# Altium schematic symbol library WE-PoE+.SchLib: 22 symbols
Pins are listed as number, name and electrical type; pins without a type are passive.

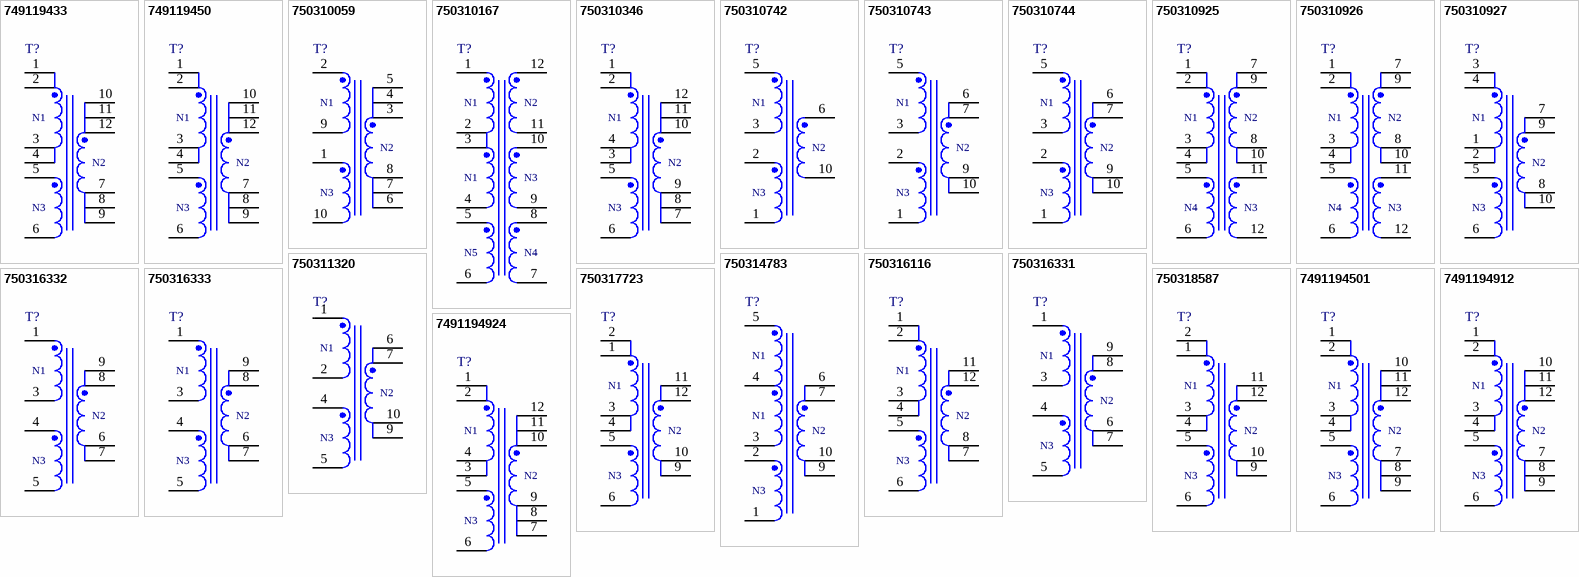
[diagram p0: symbols 749119433 to 7491194924]

## 749119433
designator T?  (value not drawn)
WE-PoE+ Power over Ethernet Plus Transformer, SMT, EFD20, Ui = 36-72V, Po = 3.3V/9A; Manufacturer: Wurth Elektronik; Auxiliary Voltage: 11V; DC Resistance 1: 99mΩ; DC Resistance 2: 3.2mΩ; DC Resistance 3: 220mΩ; Inductance: 42μH; Input Voltage: 36-72V (DC); Insulation Test Voltage: 1500V (AC); Output Current: 9A; Output Voltage: 3.3V; Turns Ratio: 11:1:3.3; Type: CCM Flyback; Manufacturer Part Number: 749119433; Category: Transformers For DC-DC Converter; Match Code: WE-PoE+; ComponentLink1Description: Website Link; ComponentLink1URL: https://www.we-online.com/redexpert/article/749119433?ad; ComponentLink2Description: Datasheet Link; ComponentLink2URL: https://www.we-online.com/redexpert/spec/749119433?ad; Mount: Surface Mount; Min Operating Temperature: -40°C; Max Operating Temperature: 125°C; Packaging: Tape and Reel; Case/Size Code: EFD20; Length: 23.11mm; Width: 22mm; Height: 11.43mm
footprint EFD20_749119433
simulation model 749119433
pins: 1, 2, 3, 4, 5, 6, 7, 8, 9, 10, 11, 12
text: N1; N2; N3

## 749119450
designator T?  (value not drawn)
WE-PoE+ Power over Ethernet Plus Transformer, SMT, EFD20, Ui = 36-72V, Po = 5V/6A; Manufacturer: Wurth Elektronik; Auxiliary Voltage: 15V; DC Resistance 1: 116mΩ; DC Resistance 2: 4mΩ; DC Resistance 3: 230mΩ; Inductance: 65μH; Input Voltage: 36-72V (DC); Insulation Test Voltage: 1500V (AC); Output Current: 6A; Output Voltage: 5V; Turns Ratio: 7:1:3; Type: CCM Flyback; Manufacturer Part Number: 749119450; Category: Transformers For DC-DC Converter; Match Code: WE-PoE+; ComponentLink1Description: Website Link; ComponentLink1URL: https://www.we-online.com/redexpert/article/749119450?ad; ComponentLink2Description: Datasheet Link; ComponentLink2URL: https://www.we-online.com/redexpert/spec/749119450?ad; Mount: Surface Mount; Min Operating Temperature: -40°C; Max Operating Temperature: 125°C; Packaging: Tape and Reel; Case/Size Code: EFD20; Length: 23.11mm; Width: 22mm; Height: 11.43mm
footprint EFD20_749119450
simulation model 749119450
pins: 1, 2, 3, 4, 5, 6, 7, 8, 9, 10, 11, 12
text: N1; N2; N3

## 750310059
designator T?  (value not drawn)
WE-PoE+ Power over Ethernet Plus Transformer, SMT, EFD20, Ui = 36-72V, Po = 5V/6A; Manufacturer: Wurth Elektronik; Auxiliary Voltage: 17V; DC Resistance 1: 750mΩ; DC Resistance 2: 4.5mΩ; Inductance: 29.2μH; Input Voltage: 36-72V (DC); Insulation Test Voltage: 1500V (AC); Output Current: 6A; Output Voltage: 5V; Turns Ratio: 8:1:3.5; Type: Active Clamp Forward; Manufacturer Part Number: 750310059; Category: Transformers For DC-DC Converter; Match Code: WE-PoE+; ComponentLink1Description: Website Link; ComponentLink1URL: https://www.we-online.com/redexpert/article/750310059?ad; ComponentLink2Description: Datasheet Link; ComponentLink2URL: https://www.we-online.com/redexpert/spec/750310059?ad; Mount: Surface Mount; Min Operating Temperature: -40°C; Max Operating Temperature: 125°C; Packaging: Tape and Reel; Case/Size Code: EFD20; Length: 25.91mm; Width: 23.11mm; Height: 10.92mm; DC Resistance 3: 750mΩ
footprint EFD20_750310059
pins: 1, 2, 3, 4, 5, 6, 7, 8, 9, 10
text: N1; N2; N3

## 750310167
designator T?  (value not drawn)
WE-PoE+ Power over Ethernet Plus Transformer, SMT, EFD20, Ui = 36-72V, Po1 = 3.3V/3A, Po2 = 12V/1.6A, Po3 = 5V/0.4A; Manufacturer: Wurth Elektronik; Auxiliary Voltage: 12V; DC Resistance 1: 70mΩ; DC Resistance 2: 9mΩ; DC Resistance 3: 23mΩ; Inductance: 25μH; Input Voltage: 36-72V (DC); Insulation Test Voltage: 1500V (AC); Output Current: 3A; Output Current 2: 1.6A; Output Current 3: 0.4A; Output Voltage: 3.3V; Output Voltage 3: 5V; Turns Ratio: 6.67:1:2.67:1.33:2.67; Type: Flyback; Manufacturer Part Number: 750310167; Category: Transformers For DC-DC Converter; Match Code: WE-PoE+; ComponentLink1Description: Website Link; ComponentLink1URL: https://www.we-online.com/redexpert/article/750310167?ad; ComponentLink2Description: Datasheet Link; ComponentLink2URL: https://www.we-online.com/redexpert/spec/750310167?ad; Mount: Surface Mount; Min Operating Temperature: -40°C; Max Operating Temperature: 125°C; Packaging: Tape and Reel; Case/Size Code: EFD20; Length: 29.65mm; Width: 21.8mm; Height: 11.43mm; Output Voltage 2: 12V
footprint EFD20_750310167
pins: 1, 2, 3, 4, 5, 6, 7, 8, 9, 10, 11, 12
text: N1; N2; N3; N5; N4

## 750310346
designator T?  (value not drawn)
WE-PoE+ Power over Ethernet Plus Transformer, SMT, EFD20, Ui = 36-72V, Po = 12V/2.5A; Manufacturer: Wurth Elektronik; Auxiliary Voltage: 12V; DC Resistance 1: 85mΩ; DC Resistance 2: 25mΩ; DC Resistance 3: 245mΩ; Inductance: 100μH; Input Voltage: 36-72V (DC); Insulation Test Voltage: 1500V (AC); Output Current: 2.5A; Turns Ratio: 3:1:1; Type: Flyback; Manufacturer Part Number: 750310346; Category: Transformers For DC-DC Converter; Match Code: WE-PoE+; ComponentLink1Description: Website Link; ComponentLink1URL: https://www.we-online.com/redexpert/article/750310346?ad; ComponentLink2Description: Datasheet Link; ComponentLink2URL: https://www.we-online.com/redexpert/spec/750310346?ad; Mount: Surface Mount; Min Operating Temperature: -40°C; Max Operating Temperature: 125°C; Packaging: Tape and Reel; Case/Size Code: EFD20; Length: 29.65mm; Width: 21.8mm; Height: 11.43mm; Output Voltage: 12V
footprint EFD20_750310346
pins: 1, 2, 3, 4, 5, 6, 7, 8, 9, 10, 11, 12
text: N1; N2; N3

## 750310742
designator T?  (value not drawn)
WE-PoE+ Power over Ethernet Plus Transformer, SMT, EP13, Ui = 37-57V, Po = 12V/2.1A; Manufacturer: Wurth Elektronik; Auxiliary Voltage: 12.5V; DC Resistance 1: 85mΩ; DC Resistance 2: 25mΩ; DC Resistance 3: 155mΩ; Inductance: 38μH; Input Voltage: 37-57V (DC); Insulation Test Voltage: 1500V (AC); Output Current: 2.1A; Output Voltage: 12V; Turns Ratio: 2:1:1.1; Type: CCM Flyback; Manufacturer Part Number: 750310742; Category: Transformers For DC-DC Converter; Match Code: WE-PoE+; ComponentLink1Description: Website Link; ComponentLink1URL: https://www.we-online.com/redexpert/article/750310742?ad; ComponentLink2Description: Datasheet Link; ComponentLink2URL: https://www.we-online.com/redexpert/spec/750310742?ad; Mount: Surface Mount; Min Operating Temperature: -40°C; Max Operating Temperature: 125°C; Packaging: Tape and Reel; Case/Size Code: EP13; Length: 13.46mm; Width: 13mm; Height: 12.7mm
footprint EP13_750310742
simulation model 750310742
pins: 1, 2, 3, 5, 6, 10
text: N1; N2; N3

## 750310743
designator T?  (value not drawn)
WE-PoE+ Power over Ethernet Plus Transformer, SMT, EP13, Ui = 37-57V, Po = 3.3V/7.5A; Manufacturer: Wurth Elektronik; Auxiliary Voltage: 12.7V; DC Resistance 1: 100mΩ; DC Resistance 2: 3mΩ; DC Resistance 3: 182mΩ; Inductance: 38μH; Input Voltage: 37-57V (DC); Insulation Test Voltage: 1500V (AC); Output Current: 7.5A; Output Voltage: 3.3V; Turns Ratio: 6.67:1:4; Type: CCM Flyback; Manufacturer Part Number: 750310743; Category: Transformers For DC-DC Converter; Match Code: WE-PoE+; ComponentLink1Description: Website Link; ComponentLink1URL: https://www.we-online.com/redexpert/article/750310743?ad; ComponentLink2Description: Datasheet Link; ComponentLink2URL: https://www.we-online.com/redexpert/spec/750310743?ad; Mount: Surface Mount; Min Operating Temperature: -40°C; Max Operating Temperature: 125°C; Packaging: Tape and Reel; Case/Size Code: EP13; Length: 13.46mm; Width: 13mm; Height: 12.7mm
footprint EP13_750310743
simulation model 750310743
pins: 1, 2, 3, 5, 6, 7, 9, 10
text: N1; N2; N3

## 750310744
designator T?  (value not drawn)
WE-PoE+ Power over Ethernet Plus Transformer, SMT, EP13, Ui = 37-57V, Po = 5V/5A; Manufacturer: Wurth Elektronik; Auxiliary Voltage: 12V; DC Resistance 1: 100mΩ; DC Resistance 2: 4.5mΩ; DC Resistance 3: 255mΩ; Inductance: 38μH; Input Voltage: 37-57V (DC); Insulation Test Voltage: 1500V (AC); Output Current: 5A; Output Voltage: 5V; Turns Ratio: 5:1:2.5; Type: CCM Flyback; Manufacturer Part Number: 750310744; Category: Transformers For DC-DC Converter; Match Code: WE-PoE+; ComponentLink1Description: Website Link; ComponentLink1URL: https://www.we-online.com/redexpert/article/750310744?ad; ComponentLink2Description: Datasheet Link; ComponentLink2URL: https://www.we-online.com/redexpert/spec/750310744?ad; Mount: Surface Mount; Min Operating Temperature: -40°C; Max Operating Temperature: 125°C; Packaging: Tape and Reel; Case/Size Code: EP13; Length: 13.46mm; Width: 13mm; Height: 12.7mm
footprint EP13_750310744
simulation model 750310744
pins: 1, 2, 3, 5, 6, 7, 9, 10
text: N1; N2; N3

## 750310925
designator T?  (value not drawn)
WE-PoE+ Power over Ethernet Plus Transformer, SMT, EFD20, Ui = 36-72V, Po1 = 3.3V/9A, Po2 = 6.5V/0.05A; Manufacturer: Wurth Elektronik; Auxiliary Voltage: 6.5V; DC Resistance 1: 60mΩ; DC Resistance 2: 8mΩ; DC Resistance 3: 350mΩ; Inductance: 57μH; Input Voltage: 36-72V (DC); Insulation Test Voltage: 1500V (AC); Output Current: 9A; Output Current 2: 0.05A; Output Voltage: 3.3V; Turns Ratio: 8:1:2:2; Type: CCM Flyback; Manufacturer Part Number: 750310925; Category: Transformers For DC-DC Converter; Match Code: WE-PoE+; ComponentLink1Description: Website Link; ComponentLink1URL: https://www.we-online.com/redexpert/article/750310925?ad; ComponentLink2Description: Datasheet Link; ComponentLink2URL: https://www.we-online.com/redexpert/spec/750310925?ad; Mount: Surface Mount; Min Operating Temperature: -40°C; Max Operating Temperature: 125°C; Packaging: Tape and Reel; Case/Size Code: EFD20; Length: 23.11mm; Width: 22mm; Height: 11.43mm; Output Voltage 2: 6.5V
footprint EFD20_750310925
simulation model 750310925
pins: 1, 2, 3, 4, 5, 6, 7, 8, 9, 10, 11, 12
text: N1; N2; N4; N3

## 750310926
designator T?  (value not drawn)
WE-PoE+ Power over Ethernet Plus Transformer, SMT, EFD20, Ui = 36-72V, Po1 = 5V/6A, Po2 = 6.5V/0.05A; Manufacturer: Wurth Elektronik; Auxiliary Voltage: 6.5V; DC Resistance 1: 50mΩ; DC Resistance 2: 10mΩ; DC Resistance 3: 300mΩ; Inductance: 40μH; Input Voltage: 36-72V (DC); Insulation Test Voltage: 1500V (AC); Output Current: 6A; Output Current 2: 0.05A; Output Voltage: 5V; Turns Ratio: 5:1:1.25:1.25; Type: CCM Flyback; Manufacturer Part Number: 750310926; Category: Transformers For DC-DC Converter; Match Code: WE-PoE+; ComponentLink1Description: Website Link; ComponentLink1URL: https://www.we-online.com/redexpert/article/750310926?ad; ComponentLink2Description: Datasheet Link; ComponentLink2URL: https://www.we-online.com/redexpert/spec/750310926?ad; Mount: Surface Mount; Min Operating Temperature: -40°C; Max Operating Temperature: 125°C; Packaging: Tape and Reel; Case/Size Code: EFD20; Length: 23.11mm; Width: 22mm; Height: 11.43mm; Output Voltage 2: 6.5V
footprint EFD20_750310926
simulation model 750310926
pins: 1, 2, 3, 4, 5, 6, 7, 8, 9, 10, 11, 12
text: N1; N2; N4; N3

## 750310927
designator T?  (value not drawn)
WE-PoE+ Power over Ethernet Plus Transformer, SMT, EFD20, Ui = 36-72V, Po = 12V/2.5A; Manufacturer: Wurth Elektronik; Auxiliary Voltage: 6V; DC Resistance 1: 150mΩ; DC Resistance 2: 50mΩ; DC Resistance 3: 70mΩ; Inductance: 112μH; Input Voltage: 36-72V (DC); Insulation Test Voltage: 1500V (AC); Output Current: 2.5A; Output Voltage: 12V; Turns Ratio: 3:1:0.5; Type: CCM Flyback; Manufacturer Part Number: 750310927; Category: Transformers For DC-DC Converter; Match Code: WE-PoE+; ComponentLink1Description: Website Link; ComponentLink1URL: https://www.we-online.com/redexpert/article/750310927?ad; ComponentLink2Description: Datasheet Link; ComponentLink2URL: https://www.we-online.com/redexpert/spec/750310927?ad; Mount: Surface Mount; Min Operating Temperature: -40°C; Max Operating Temperature: 125°C; Packaging: Tape and Reel; Case/Size Code: EFD20; Length: 23.11mm; Width: 22mm; Height: 11.43mm
footprint EFD20_750310927
simulation model 750310927
pins: 1, 2, 3, 4, 5, 6, 7, 8, 9, 10
text: N1; N2; N3

## 750311320
designator T?  (value not drawn)
WE-PoE+ Power over Ethernet Plus Transformer, SMT, EP13, Ui = 33-57V, Po = 12V/2.5A; Manufacturer: Wurth Elektronik; Auxiliary Voltage: 12V; DC Resistance 1: 210mΩ; DC Resistance 2: 35mΩ; DC Resistance 3: 580mΩ; Inductance: 100μH; Input Voltage: 33-57V (DC); Insulation Test Voltage: 1500V (AC); Output Current: 2.5A; Turns Ratio: 1.8:1:1; Type: Active Clamp Forward; Manufacturer Part Number: 750311320; Category: Transformers For DC-DC Converter; Match Code: WE-PoE+; ComponentLink1Description: Website Link; ComponentLink1URL: https://www.we-online.com/redexpert/article/750311320?ad; ComponentLink2Description: Datasheet Link; ComponentLink2URL: https://www.we-online.com/redexpert/spec/750311320?ad; Mount: Surface Mount; Min Operating Temperature: -40°C; Max Operating Temperature: 125°C; Packaging: Tape and Reel; Case/Size Code: EP13; Length: 17.75mm; Width: 13.46mm; Height: 12.7mm; Output Voltage: 12V
footprint EP13_750311320
pins: 1, 2, 4, 5, 6, 7, 9, 10
text: N1; N2; N3

## 750314783
designator T?  (value not drawn)
WE-PoE+ Power over Ethernet Plus Transformer, SMT, EP13, Ui = 48-57V, Po = 5V/7A; Manufacturer: Wurth Elektronik; Auxiliary Voltage: 12V; DC Resistance 1: 94mΩ; DC Resistance 2: 7mΩ; DC Resistance 3: 233mΩ; Inductance: 26μH; Input Voltage: 48-57V (DC); Insulation Test Voltage: 2400V (AC); Output Current: 7A; Output Voltage: 5V; Turns Ratio: 4.5:1:2.5; Type: Flyback; Manufacturer Part Number: 750314783; Category: Transformers For DC-DC Converter; Match Code: WE-PoE+; ComponentLink1Description: Website Link; ComponentLink1URL: https://www.we-online.com/redexpert/article/750314783?ad; ComponentLink2Description: Datasheet Link; ComponentLink2URL: https://www.we-online.com/redexpert/spec/750314783?ad; Mount: Surface Mount; Min Operating Temperature: -40°C; Max Operating Temperature: 125°C; Packaging: Tape and Reel; Case/Size Code: EP13; Length: 17.75mm; Width: 13.46mm; Height: 12.7mm
footprint EP13_750314783
pins: 1, 2, 3, 4, 5, 6, 7, 9, 10
text: N1; N2; N3

## 750316116
designator T?  (value not drawn)
WE-PoE+ Power over Ethernet Plus Transformer, SMT, EFD20, Ui = 41-57V, Po = 12V/4A; Manufacturer: Wurth Elektronik; Auxiliary Voltage: 12V; DC Resistance 1: 20mΩ; DC Resistance 2: 11mΩ; DC Resistance 3: 66mΩ; Inductance: 18μH; Input Voltage: 41-57V (DC); Insulation Test Voltage: 1500V (AC); Output Current: 4A; Turns Ratio: 2:1:1; Type: Flyback; Manufacturer Part Number: 750316116; Category: Transformers For DC-DC Converter; Match Code: WE-PoE+; ComponentLink1Description: Website Link; ComponentLink1URL: https://www.we-online.com/redexpert/article/750316116?ad; ComponentLink2Description: Datasheet Link; ComponentLink2URL: https://www.we-online.com/redexpert/spec/750316116?ad; Mount: Surface Mount; Min Operating Temperature: -40°C; Max Operating Temperature: 125°C; Packaging: Tape and Reel; Case/Size Code: EFD20; Length: 29.65mm; Width: 21.8mm; Height: 11.43mm; Output Voltage: 12V
footprint EFD20_750316116
pins: 1, 2, 3, 4, 5, 6, 7, 8, 11, 12
text: N1; N2; N3

## 750316331
designator T?  (value not drawn)
WE-PoE+ Power over Ethernet Plus Transformer, SMT, EPW15, Ui = 36-57V, Po = 3.3V/8A; Manufacturer: Wurth Elektronik; Auxiliary Voltage: 12V; DC Resistance 1: 120mΩ; DC Resistance 2: 10mΩ; DC Resistance 3: 125mΩ; Inductance: 54μH; Input Voltage: 36-57V (DC); Insulation Test Voltage: 1500V (AC); Output Current: 8A; Output Voltage: 3.3V; Turns Ratio: 8:1:3.67; Type: Flyback; Manufacturer Part Number: 750316331; Category: Transformers For DC-DC Converter; Match Code: WE-PoE+; ComponentLink1Description: Website Link; ComponentLink1URL: https://www.we-online.com/redexpert/article/750316331?ad; ComponentLink2Description: Datasheet Link; ComponentLink2URL: https://www.we-online.com/redexpert/spec/750316331?ad; Mount: Surface Mount; Min Operating Temperature: -40°C; Max Operating Temperature: 125°C; Packaging: Tape and Reel; Case/Size Code: EPW15; Length: 21.69mm; Width: 15.5mm; Height: 13.5mm
footprint EPW15_750316331
pins: 1, 3, 4, 5, 6, 7, 8, 9
text: N1; N2; N3

## 750316332
designator T?  (value not drawn)
WE-PoE+ Power over Ethernet Plus Transformer, SMT, EPW15, Ui = 36-57V, Po = 5V/6A; Manufacturer: Wurth Elektronik; Auxiliary Voltage: 12V; DC Resistance 1: 65mΩ; DC Resistance 2: 10mΩ; DC Resistance 3: 140mΩ; Inductance: 48μH; Input Voltage: 36-57V (DC); Insulation Test Voltage: 1500V (AC); Output Current: 6A; Output Voltage: 5V; Turns Ratio: 5:1:2.2; Type: Flyback; Manufacturer Part Number: 750316332; Category: Transformers For DC-DC Converter; Match Code: WE-PoE+; ComponentLink1Description: Website Link; ComponentLink1URL: https://www.we-online.com/redexpert/article/750316332?ad; ComponentLink2Description: Datasheet Link; ComponentLink2URL: https://www.we-online.com/redexpert/spec/750316332?ad; Mount: Surface Mount; Min Operating Temperature: -40°C; Max Operating Temperature: 125°C; Packaging: Tape and Reel; Case/Size Code: EPW15; Length: 21.69mm; Width: 15.5mm; Height: 13.5mm
footprint EPW15_750316332
pins: 1, 3, 4, 5, 6, 7, 8, 9
text: N1; N2; N3

## 750316333
designator T?  (value not drawn)
WE-PoE+ Power over Ethernet Plus Transformer, SMT, EPW15, Ui = 36-57V, Po = 12V/3A; Manufacturer: Wurth Elektronik; Auxiliary Voltage: 12V; DC Resistance 1: 50mΩ; DC Resistance 2: 20mΩ; DC Resistance 3: 89mΩ; Inductance: 41μH; Input Voltage: 36-57V (DC); Insulation Test Voltage: 1500V (AC); Output Current: 3A; Turns Ratio: 2.67:1:1; Type: Flyback; Manufacturer Part Number: 750316333; Category: Transformers For DC-DC Converter; Match Code: WE-PoE+; ComponentLink1Description: Website Link; ComponentLink1URL: https://www.we-online.com/redexpert/article/750316333?ad; ComponentLink2Description: Datasheet Link; ComponentLink2URL: https://www.we-online.com/redexpert/spec/750316333?ad; Mount: Surface Mount; Min Operating Temperature: -40°C; Max Operating Temperature: 125°C; Packaging: Tape and Reel; Case/Size Code: EPW15; Length: 21.69mm; Width: 15.5mm; Height: 13.5mm; Output Voltage: 12V
footprint EPW15_750316333
pins: 1, 3, 4, 5, 6, 7, 8, 9
text: N1; N2; N3

## 750317723
designator T?  (value not drawn)
WE-PoE+ Power over Ethernet Plus Transformer, SMT, EFD20, Ui = 20-48V, Po = 24V/1.3A; Manufacturer: Wurth Elektronik; Auxiliary Voltage: 10V; DC Resistance 1: 30mΩ; DC Resistance 2: 35mΩ; DC Resistance 3: 55mΩ; Inductance: 8μH; Input Voltage: 20-48V (DC); Insulation Test Voltage: 2500V (AC); Output Current: 1.3A; Output Voltage: 24V; Turns Ratio: 1:1:0.42; Type: CCM Flyback; Manufacturer Part Number: 750317723; Category: Transformers For DC-DC Converter; Match Code: WE-PoE+; ComponentLink1Description: Website Link; ComponentLink1URL: https://www.we-online.com/redexpert/article/750317723?ad; ComponentLink2Description: Datasheet Link; ComponentLink2URL: https://www.we-online.com/redexpert/spec/750317723?ad; Mount: Surface Mount; Min Operating Temperature: -40°C; Max Operating Temperature: 125°C; Packaging: Tape and Reel; Case/Size Code: EFD20; Length: 29.65mm; Width: 23.11mm; Height: 11.43mm
footprint EFD20_750317723
pins: 1, 2, 3, 4, 5, 6, 9, 10, 11, 12
text: N1; N2; N3

## 750318587
designator T?  (value not drawn)
WE-PoE+ Power over Ethernet Plus Transformer, SMT, EFD20, Ui = 17-57V, Po = 24V/1A; Manufacturer: Wurth Elektronik; Auxiliary Voltage: 10.6V; DC Resistance 1: 125mΩ; DC Resistance 2: 100mΩ; DC Resistance 3: 165mΩ; Inductance: 0.8μH; Input Voltage: 17-57V (DC); Insulation Test Voltage: 1500V (AC); Output Current: 1A; Output Voltage: 24V; Turns Ratio: 1:1:2.17; Type: CCM Flyback; Manufacturer Part Number: 750318587; Category: Transformers For DC-DC Converter; Match Code: WE-PoE+; ComponentLink1Description: Website Link; ComponentLink1URL: https://www.we-online.com/redexpert/article/750318587?ad; ComponentLink2Description: Datasheet Link; ComponentLink2URL: https://www.we-online.com/redexpert/spec/750318587?ad; Mount: Surface Mount; Min Operating Temperature: -40°C; Max Operating Temperature: 125°C; Packaging: Tape and Reel; Case/Size Code: EFD20; Length: 29.65mm; Width: 21.8mm; Height: 11.43mm
footprint EFD20_750318587
pins: 1, 2, 3, 4, 5, 6, 9, 10, 11, 12
text: N1; N2; N3

## 7491194501
designator T?  (value not drawn)
WE-PoE+ Power over Ethernet Plus Transformer, SMT, EFD20, Ui = 36-72V, Po = 5V/6A; Manufacturer: Wurth Elektronik; Auxiliary Voltage: 12V; DC Resistance 1: 84mΩ; DC Resistance 2: 5mΩ; DC Resistance 3: 170mΩ; Inductance: 42μH; Input Voltage: 36-72V (DC); Insulation Test Voltage: 1500V (AC); Output Current: 6A; Output Voltage: 5V; Turns Ratio: 7:1:2.25; Type: CCM Flyback; Manufacturer Part Number: 7491194501; Category: Transformers For DC-DC Converter; Match Code: WE-PoE+; ComponentLink1Description: Website Link; ComponentLink1URL: https://www.we-online.com/redexpert/article/7491194501?ad; ComponentLink2Description: Datasheet Link; ComponentLink2URL: https://www.we-online.com/redexpert/spec/7491194501?ad; Mount: Surface Mount; Min Operating Temperature: -40°C; Max Operating Temperature: 125°C; Packaging: Tape and Reel; Case/Size Code: EFD20; Length: 23.11mm; Width: 22mm; Height: 11.43mm
footprint EFD20_7491194501
simulation model 7491194501
pins: 1, 2, 3, 4, 5, 6, 7, 8, 9, 10, 11, 12
text: N1; N2; N3

## 7491194912
designator T?  (value not drawn)
WE-PoE+ Power over Ethernet Plus Transformer, SMT, EFD20, Ui = 36-72V, Po = 12V/2.5A; Manufacturer: Wurth Elektronik; Auxiliary Voltage: 12V; DC Resistance 1: 61mΩ; DC Resistance 2: 18mΩ; DC Resistance 3: 180mΩ; Inductance: 42μH; Input Voltage: 36-72V (DC); Insulation Test Voltage: 1500V (AC); Output Current: 2.5A; Turns Ratio: 3:1:1; Type: CCM Flyback; Manufacturer Part Number: 7491194912; Category: Transformers For DC-DC Converter; Match Code: WE-PoE+; ComponentLink1Description: Website Link; ComponentLink1URL: https://www.we-online.com/redexpert/article/7491194912?ad; ComponentLink2Description: Datasheet Link; ComponentLink2URL: https://www.we-online.com/redexpert/spec/7491194912?ad; Mount: Surface Mount; Min Operating Temperature: -40°C; Max Operating Temperature: 125°C; Packaging: Tape and Reel; Case/Size Code: EFD20; Length: 23.11mm; Width: 22mm; Height: 11.43mm; Output Voltage: 12V
footprint EFD20_7491194912
simulation model 7491194912
pins: 1, 2, 3, 4, 5, 6, 7, 8, 9, 10, 11, 12
text: N1; N2; N3

## 7491194924
designator T?  (value not drawn)
WE-PoE+ Power over Ethernet Plus Transformer, SMT, EFD20, Ui = 36-72V, Po = 24V/1.25A; Manufacturer: Wurth Elektronik; Auxiliary Voltage: 12V; DC Resistance 1: 60mΩ; DC Resistance 2: 55mΩ; DC Resistance 3: 195mΩ; Inductance: 42μH; Input Voltage: 36-72V (DC); Insulation Test Voltage: 1500V (AC); Output Current: 1.25A; Output Voltage: 24V; Turns Ratio: 1.5:1:0.5; Type: CCM Flyback; Manufacturer Part Number: 7491194924; Category: Transformers For DC-DC Converter; Match Code: WE-PoE+; ComponentLink1Description: Website Link; ComponentLink1URL: https://www.we-online.com/redexpert/article/7491194924?ad; ComponentLink2Description: Datasheet Link; ComponentLink2URL: https://www.we-online.com/redexpert/spec/7491194924?ad; Mount: Surface Mount; Min Operating Temperature: -40°C; Max Operating Temperature: 125°C; Packaging: Tape and Reel; Case/Size Code: EFD20; Length: 29.65mm; Width: 23.11mm; Height: 11.43mm
footprint EFD20_7491194924
pins: 1, 2, 3, 4, 5, 6, 7, 8, 9, 10, 11, 12
text: N1; N2; N3